# Altium integrated library 140-1.IntLib: 42 symbols
Pins are listed as number, name and electrical type; pins without a type are passive.

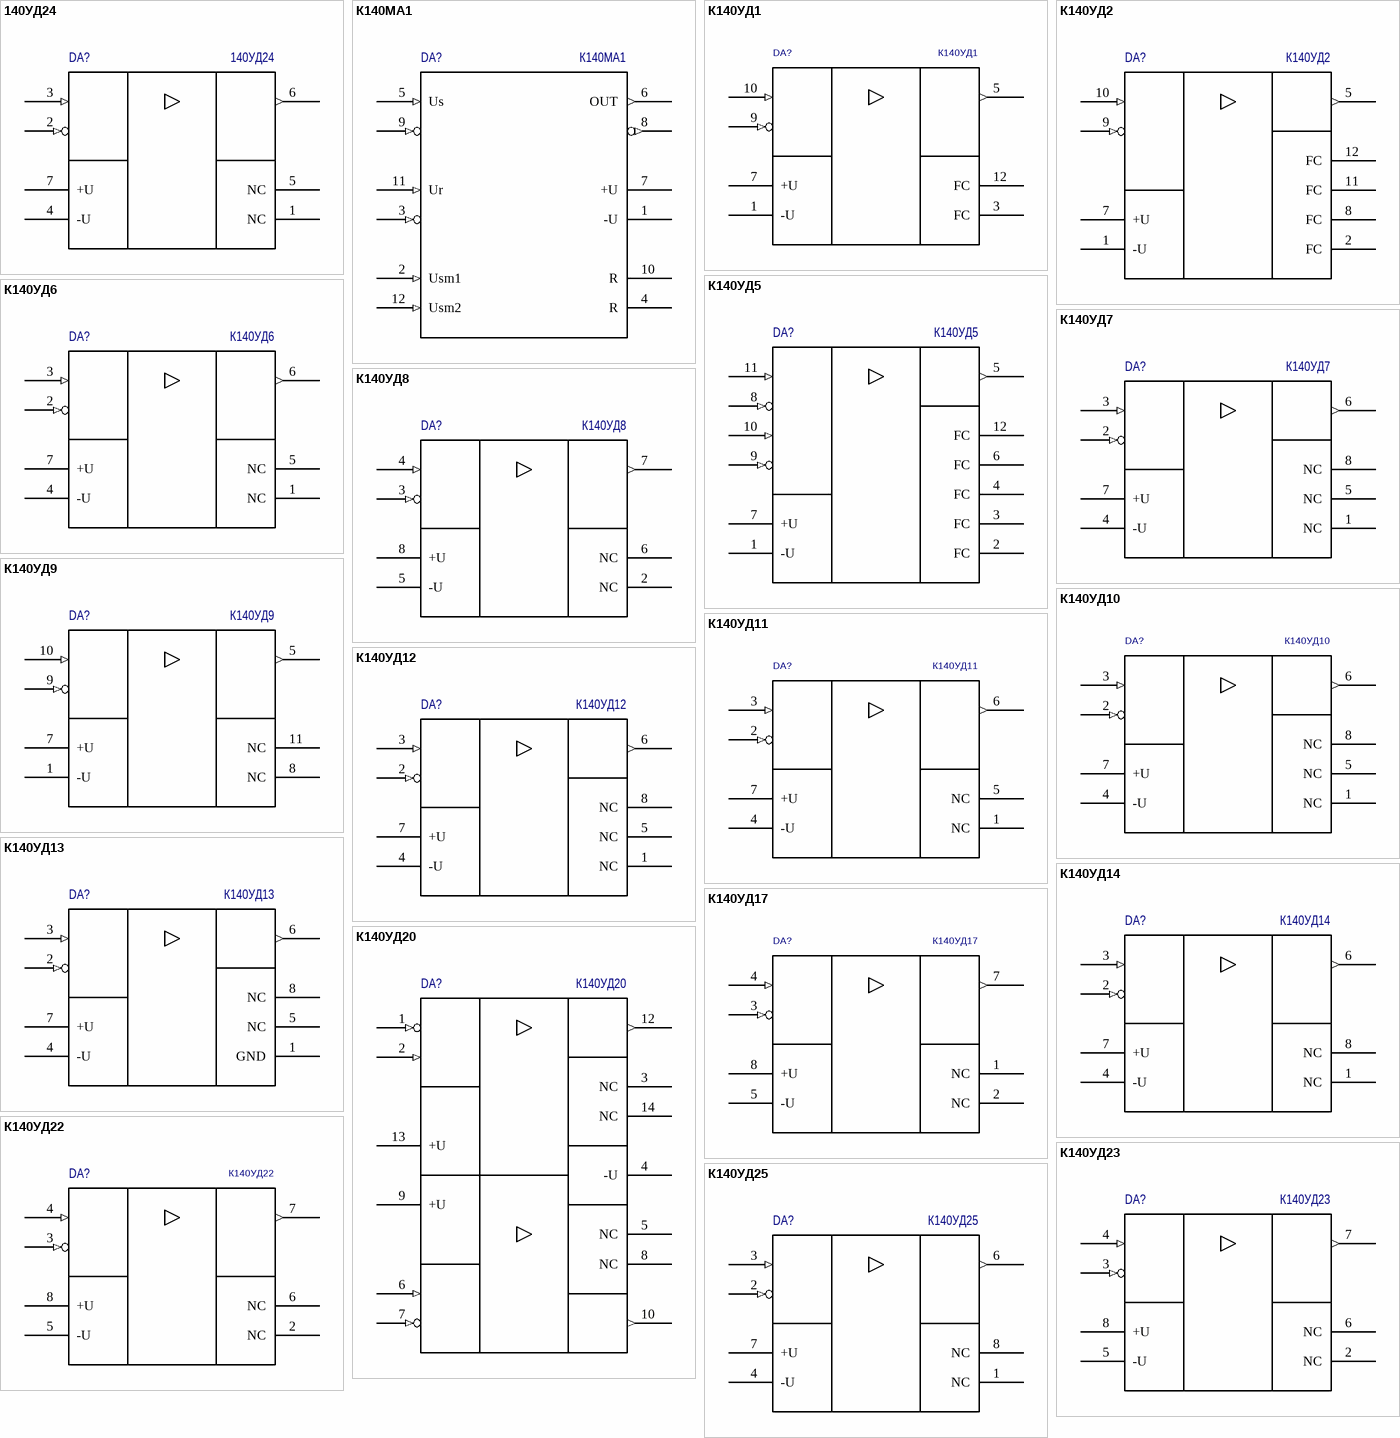
[diagram p0: symbols 140УД24 to К140УД25]

## 140УД24
designator DA?
Value: *
footprint 301.8-2
pins: 1 NC, 2 -I (in), 3 +I (in), 4 -U (power), 5 NC, 6 Q (out), 7 +U (power), 8 hidden

## К140МА1
designator DA?
Value: *
footprint 301.12-1
pins: 1 -U (power), 2 Usm1 (in), 3 ~{Ur} (in), 4 R, 5 Us (in), 6 OUT (out), 7 +U (power), 8 ~{OUT} (out), 9 Us (in), 10 R, 11 Ur (in), 12 Usm2 (in)

## К140УД1
designator DA?
Value: *
footprint 301.12-1
pins: 1 -U (power), 2 hidden, 3 FC, 4 hidden, 5 Q (out), 6 hidden, 7 +U (power), 8 hidden, 9 -I (in), 10 +I (in), 11 hidden, 12 FC

## К140УД2
designator DA?
Value: *
footprint 301.12-1
pins: 1 -U (power), 2 FC, 3 hidden, 4 hidden, 5 Q (out), 6 hidden, 7 +U (power), 8 FC, 9 -I (in), 10 +I (in), 11 FC, 12 FC

## К140УД5
designator DA?
Value: *
footprint 301.12-1
pins: 1 -U (power), 2 FC, 3 FC, 4 FC, 5 Q (out), 6 FC, 7 +U (power), 8 -I (in), 9 -I (in), 10 +I (in), 11 +I (in), 12 FC

## К140УД6
designator DA?
Value: *
footprint 301.8-2
pins: 1 NC, 2 -I (in), 3 +I (in), 4 -U (power), 5 NC, 6 Q (out), 7 +U (power), 8 hidden

## К140УД7
designator DA?
Value: *
footprint 301.8-2
pins: 1 NC, 2 -I (in), 3 +I (in), 4 -U (power), 5 NC, 6 Q (out), 7 +U (power), 8 NC

## К140УД8
designator DA?
Value: *
footprint 301.8-2
pins: 1 hidden, 2 NC, 3 -I (in), 4 +I (in), 5 -U (power), 6 NC, 7 Q (out), 8 +U (power)

## К140УД9
designator DA?
Value: *
footprint 301.12-1
pins: 1 -U (power), 2 hidden, 3 hidden, 4 hidden, 5 Q (out), 6 hidden, 7 +U (power), 8 NC, 9 -I (in), 10 +I (in), 11 NC, 12 hidden

## К140УД10
designator DA?
Value: *
footprint 301.8-2
pins: 1 NC, 2 -I (in), 3 +I (in), 4 -U (power), 5 NC, 6 Q (out), 7 +U (power), 8 NC

## К140УД11
designator DA?
Value: *
footprint 301.8-2
pins: 1 NC, 2 -I (in), 3 +I (in), 4 -U (power), 5 NC, 6 Q (out), 7 +U (power), 8 hidden

## К140УД12
designator DA?
Value: *
footprint 301.8-2
pins: 1 NC, 2 -I (in), 3 +I (in), 4 -U (power), 5 NC, 6 Q (out), 7 +U (power), 8 NC

## К140УД13
designator DA?
Value: *
footprint 301.8-2
pins: 1 GND (power), 2 -I (in), 3 +I (in), 4 -U (power), 5 NC, 6 Q (out), 7 +U (power), 8 NC

## К140УД14
designator DA?
Value: *
footprint 301.8-2
pins: 1 NC, 2 -I (in), 3 +I (in), 4 -U (power), 5 hidden, 6 Q (out), 7 +U (power), 8 NC

## К140УД17
designator DA?
Value: *
footprint 301.8-2
pins: 1 NC, 2 NC, 3 -I (in), 4 +I (in), 5 -U (power), 6 hidden, 7 Q (out), 8 +U (power)

## К140УД20
designator DA?
Value: *
footprint 201.14-1
pins: 1 -I (in), 2 +I (in), 3 NC, 4 -U (power), 5 NC, 6 +I (in), 7 -I (in), 8 NC, 9 +U (power), 10 Q (out), 11 hidden, 12 Q (out), 13 +U (power), 14 NC

## К140УД22
designator DA?
Value: *
footprint 301.8-2
pins: 1 hidden, 2 NC, 3 -I (in), 4 +I (in), 5 -U (power), 6 NC, 7 Q (out), 8 +U (power)

## К140УД23
designator DA?
Value: *
footprint 3101.8-1
pins: 1 hidden, 2 NC, 3 -I (in), 4 +I (in), 5 -U (power), 6 NC, 7 Q (out), 8 +U (power)

## К140УД25
designator DA?
Value: *
footprint 301.8-2
pins: 1 NC, 2 -I (in), 3 +I (in), 4 -U (power), 5 hidden, 6 Q (out), 7 +U (power), 8 NC

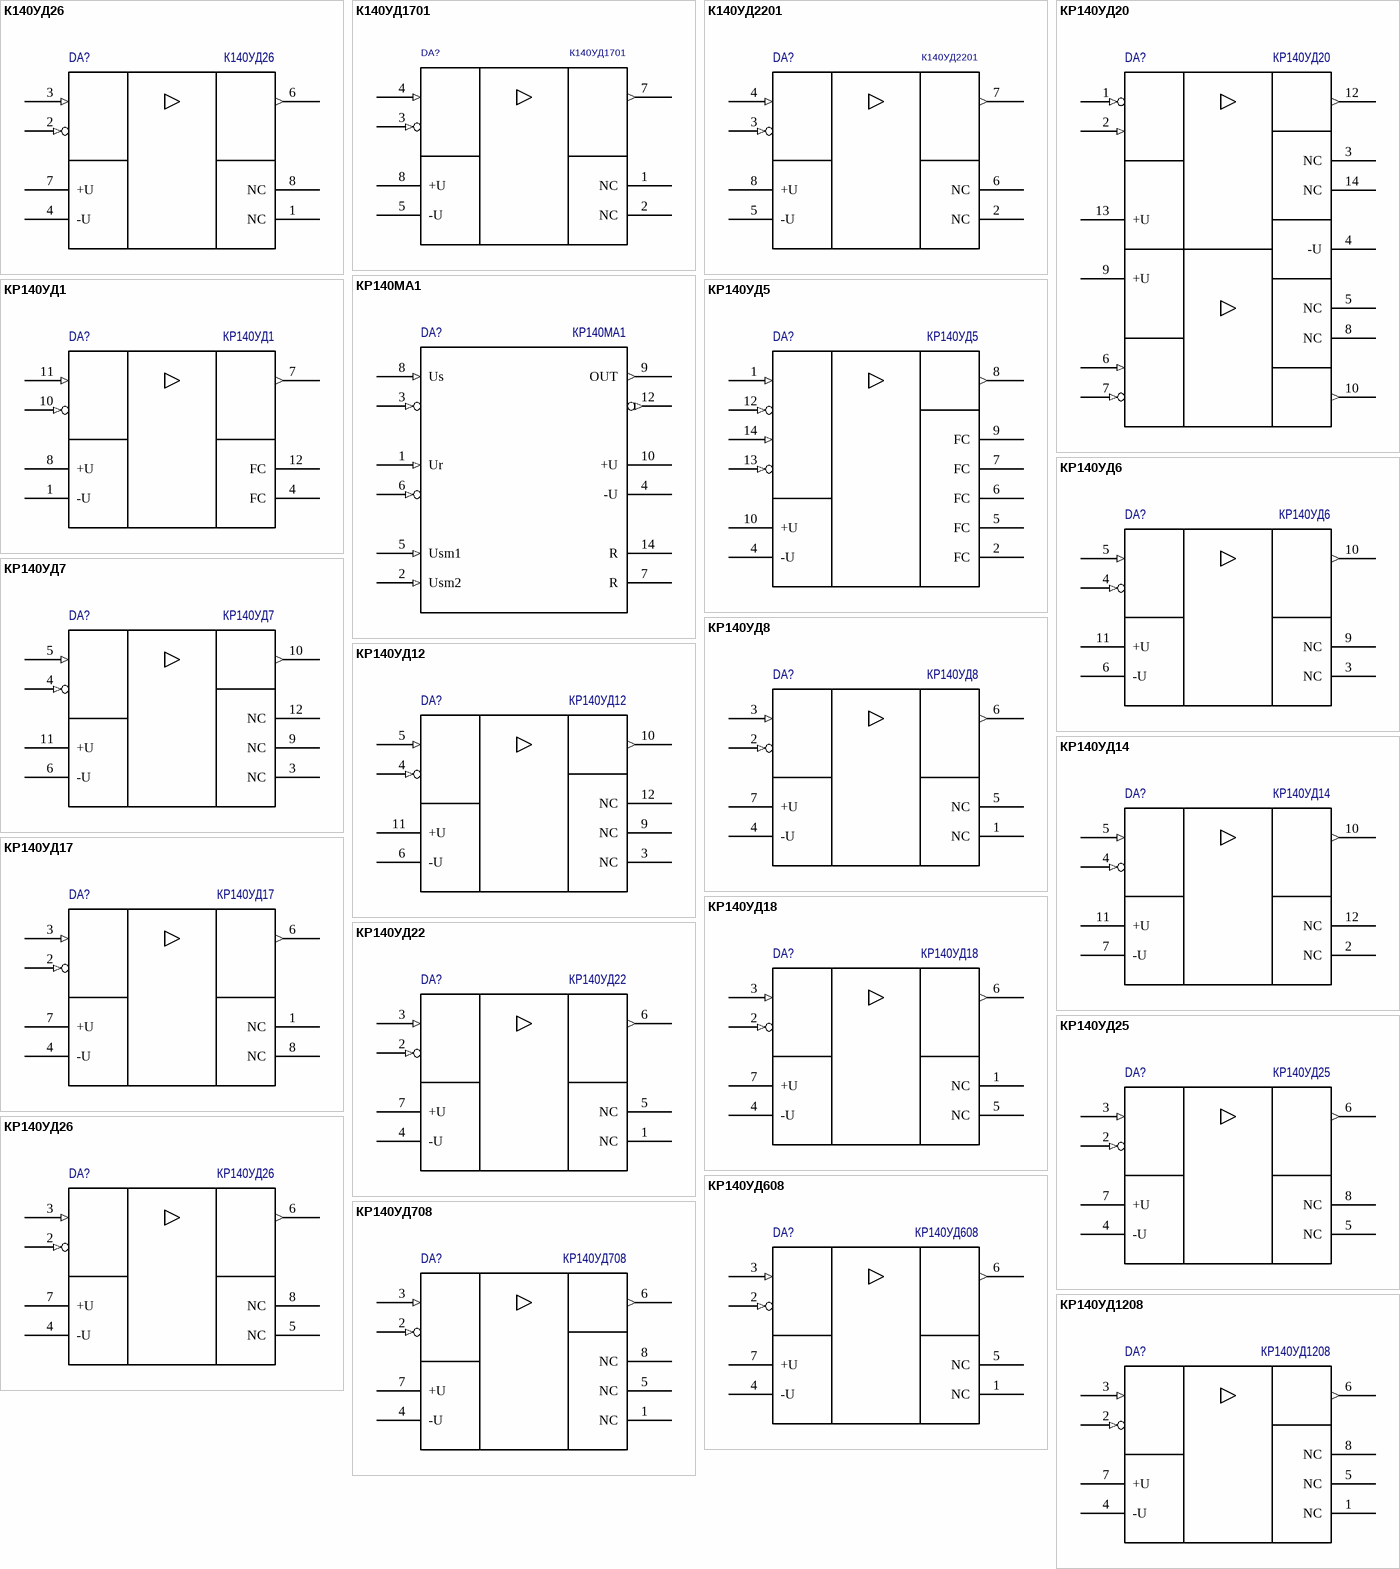
[diagram p1: symbols К140УД26 to КР140УД1208]

## К140УД26
designator DA?
Value: *
footprint 301.8-2
pins: 1 NC, 2 -I (in), 3 +I (in), 4 -U (power), 5 hidden, 6 Q (out), 7 +U (power), 8 NC

## К140УД1701
designator DA?
Value: *
footprint 3101.8-1
pins: 1 NC, 2 NC, 3 -I (in), 4 +I (in), 5 -U (power), 6 hidden, 7 Q (out), 8 +U (power)

## К140УД2201
designator DA?
Value: *
footprint 3101.8-1
pins: 1 hidden, 2 NC, 3 -I (in), 4 +I (in), 5 -U (power), 6 NC, 7 Q (out), 8 +U (power)

## КP140УД20
designator DA?
Value: *
footprint 201.14-1
pins: 1 -I (in), 2 +I (in), 3 NC, 4 -U (power), 5 NC, 6 +I (in), 7 -I (in), 8 NC, 9 +U (power), 10 Q (out), 11 hidden, 12 Q (out), 13 +U (power), 14 NC

## КР140МА1
designator DA?
Value: *
footprint 201.14-1
pins: 1 Ur (in), 2 Usm2 (in), 3 Us (in), 4 -U (power), 5 Usm1 (in), 6 ~{Ur} (in), 7 R, 8 Us (in), 9 OUT (out), 10 +U (power), 11 hidden, 12 ~{OUT} (out), 13 hidden, 14 R

## КР140УД1
designator DA?
Value: *
footprint 201.14-1
pins: 1 -U (power), 2 hidden, 3 hidden, 4 FC, 5 hidden, 6 hidden, 7 Q (out), 8 +U (power), 9 hidden, 10 -I (in), 11 +I (in), 12 FC, 13 hidden, 14 hidden

## КР140УД5
designator DA?
Value: *
footprint 201.14-1
pins: 1 +I (in), 2 FC, 3 hidden, 4 -U (power), 5 FC, 6 FC, 7 FC, 8 Q (out), 9 FC, 10 +U (power), 11 hidden, 12 -I (in), 13 -I (in), 14 +I (in)

## КР140УД6
designator DA?
Value: *
footprint 201.14-1
pins: 1 hidden, 2 hidden, 3 NC, 4 -I (in), 5 +I (in), 6 -U (power), 7 hidden, 8 hidden, 9 NC, 10 Q (out), 11 +U (power), 12 hidden, 13 hidden, 14 hidden

## КР140УД7
designator DA?
Value: *
footprint 201.14-1
pins: 1 hidden, 2 hidden, 3 NC, 4 -I (in), 5 +I (in), 6 -U (power), 7 hidden, 8 hidden, 9 NC, 10 Q (out), 11 +U (power), 12 NC, 13 hidden, 14 hidden

## КР140УД8
designator DA?
Value: *
footprint 2101.8-1
pins: 1 NC, 2 -I (in), 3 +I (in), 4 -U (power), 5 NC, 6 Q (out), 7 +U (power), 8 hidden

## КР140УД12
designator DA?
Value: *
footprint 201.14-1
pins: 1 hidden, 2 hidden, 3 NC, 4 -I (in), 5 +I (in), 6 -U (power), 7 hidden, 8 hidden, 9 NC, 10 Q (out), 11 +U (power), 12 NC, 13 hidden, 14 hidden

## КР140УД14
designator DA?
Value: *
footprint 201.14-1
pins: 1 hidden, 2 NC, 3 hidden, 4 -I (in), 5 +I (in), 6 hidden, 7 -U (power), 8 hidden, 9 hidden, 10 Q (out), 11 +U (power), 12 NC, 13 hidden, 14 hidden

## КР140УД17
designator DA?
Value: *
footprint 2101.8-1
pins: 1 NC, 2 -I (in), 3 +I (in), 4 -U (power), 5 hidden, 6 Q (out), 7 +U (power), 8 NC

## КР140УД18
designator DA?
Value: *
footprint 2101.8-1
pins: 1 NC, 2 -I (in), 3 +I (in), 4 -U (power), 5 NC, 6 Q (out), 7 +U (power), 8 hidden

## КР140УД22
designator DA?
Value: *
footprint 2101.8-1
pins: 1 NC, 2 -I (in), 3 +I (in), 4 -U (power), 5 NC, 6 Q (out), 7 +U (power), 8 hidden

## КР140УД25
designator DA?
Value: *
footprint 2101.8-1
pins: 1 hidden, 2 -I (in), 3 +I (in), 4 -U (power), 5 NC, 6 Q (out), 7 +U (power), 8 NC

## КР140УД26
designator DA?
Value: *
footprint 2101.8-1
pins: 1 hidden, 2 -I (in), 3 +I (in), 4 -U (power), 5 NC, 6 Q (out), 7 +U (power), 8 NC

## КР140УД608
designator DA?
Value: *
footprint 2101.8-1
pins: 1 NC, 2 -I (in), 3 +I (in), 4 -U (power), 5 NC, 6 Q (out), 7 +U (power), 8 hidden

## КР140УД708
designator DA?
Value: *
footprint 2101.8-1
pins: 1 NC, 2 -I (in), 3 +I (in), 4 -U (power), 5 NC, 6 Q (out), 7 +U (power), 8 NC

## КР140УД1208
designator DA?
Value: *
footprint 2101.8-1
pins: 1 NC, 2 -I (in), 3 +I (in), 4 -U (power), 5 NC, 6 Q (out), 7 +U (power), 8 NC

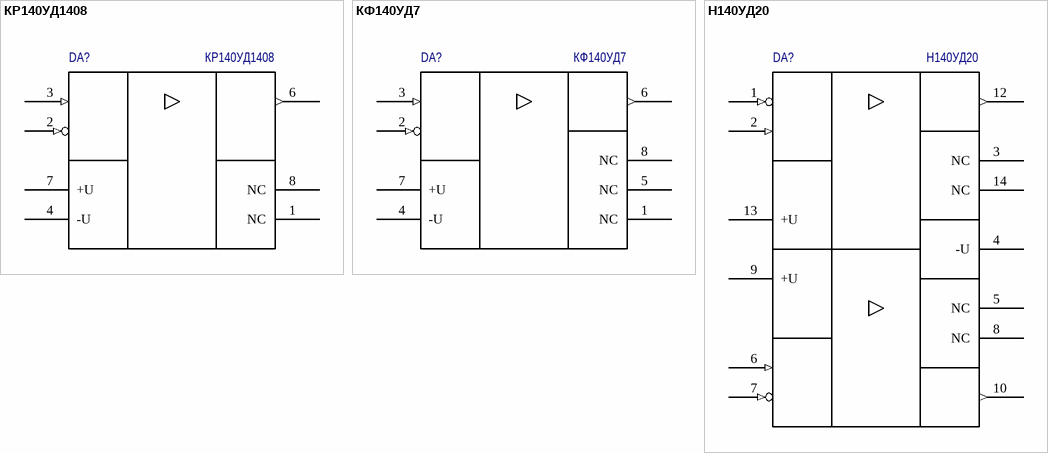
[diagram p2: symbols КР140УД1408 to Н140УД20]

## КР140УД1408
designator DA?
Value: *
footprint 2101.8-1
pins: 1 NC, 2 -I (in), 3 +I (in), 4 -U (power), 5 hidden, 6 Q (out), 7 +U (power), 8 NC

## КФ140УД7
designator DA?
Value: *
footprint 4303.8-1
pins: 1 NC, 2 -I (in), 3 +I (in), 4 -U (power), 5 NC, 6 Q (out), 7 +U (power), 8 NC

## Н140УД20
designator DA?
Value: *
footprint Н04.16-2В
pins: 1 -I (in), 2 +I (in), 3 NC, 4 -U (power), 5 NC, 6 +I (in), 7 -I (in), 8 NC, 9 +U (power), 10 Q (out), 11 hidden, 12 Q (out), 13 +U (power), 14 NC, 15 hidden, 16 hidden